# Altium footprint library QQ2440V3封装库.PcbLib: 50 footprints (part 1 of 4)
Each footprint in its own frame and in the unit in brackets; x right, y up, seen from the top. Pads: shape width x height; smd on the part's side, far side on the other; paste and mask are expansions set on the pad; w line width, h text height; cw(c..) or ccw(c..) is an arc to the next point about the centre after c.
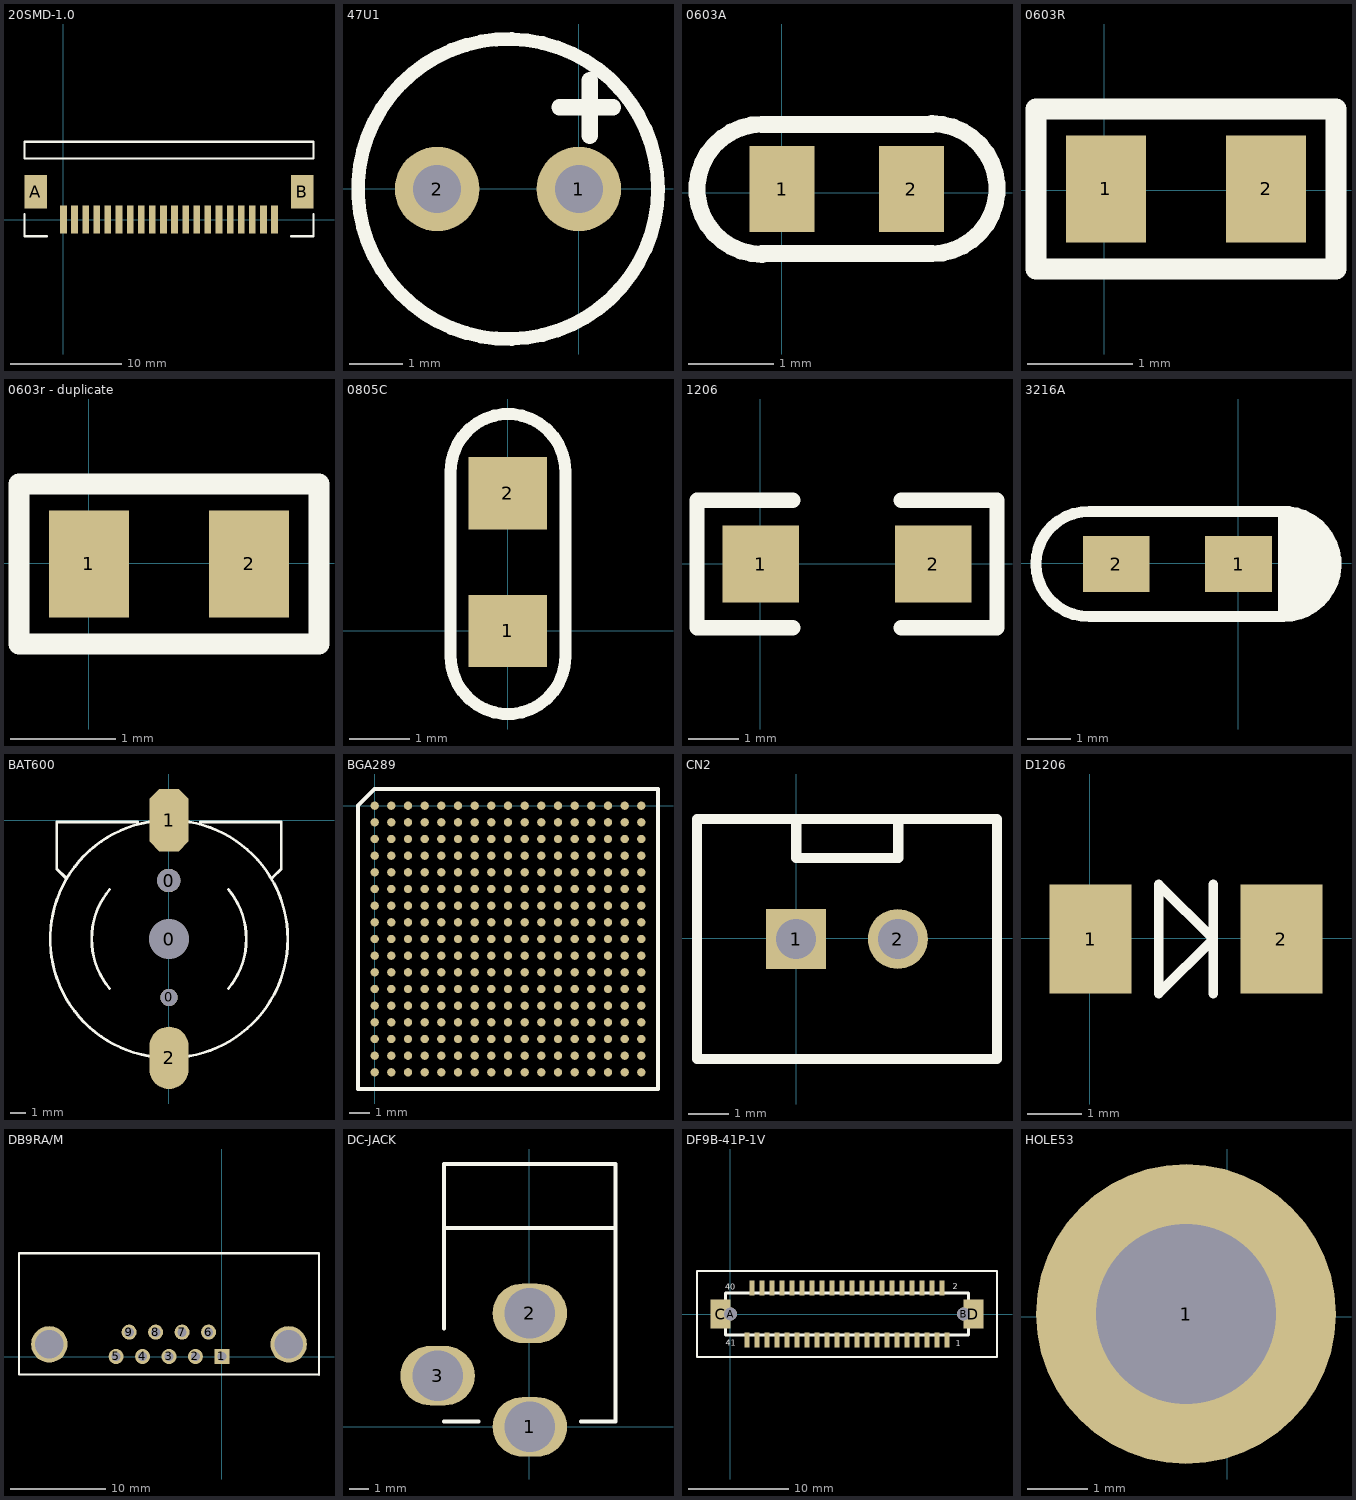
[diagram p0: the footprints below, top view; thin cyan lines are the x and y axes]

## 20SMD-1.0 [mm]
pads (22):
  rect 0.6x2.5 smd: 1(0.022,0.009) 2(1.022,0.009) 3(2.022,0.009) 4(3.022,0.009) 5(4.022,0.009) 6(5.022,0.009) 7(6.022,0.009) 8(7.022,0.009) 9(8.022,0.009) 10(9.022,0.009) 11(10.022,0.009) 12(11.022,0.009) 13(12.022,0.009) 14(13.022,0.009) 15(14.022,0.009) 16(15.022,0.009) 17(16.022,0.009) 18(17.022,0.009) 19(18.022,0.009) 20(19.022,0.009)
  rect 2x3 smd: A(-2.478,2.509) B(21.522,2.509)
TopOverlay:
  lines w0.2: -3.478,0.509 -3.478,-1.491 -1.478,-1.491 ; 20.522,-1.491 22.522,-1.491 22.522,0.509 ; -3.478,5.509 22.522,5.509 22.522,7.009 -3.478,7.009 -3.478,5.509

## 47U1 [mil]
pads (2):
  round 62 hole 35.43: 1(0.15,-0.25) 2(-104.1,-0.25)
TopOverlay:
  circle w10: c-51.98,-0.25 r110.24
  lines w12: -14.18,59.75 25.19,59.75 ; 8.02,38.8 8.02,79.75

## 0603A [mil]
pads (2):
  rect 30x40 smd: 1(0.15,1.65) 2(60.15,1.65)
TopOverlay:
  lines w7.87: -9.1,-28.63 cw(c-9.1,1.51) -9.1,31.65 69.64,31.65 ; -9.1,-28.35 69.64,-28.35 ccw(c69.64,1.8) 69.64,31.94

## 0603R [mil]
pads (2):
  rect 30x40 smd: 1(0.66,0.41) 2(60.66,0.41)
TopOverlay:
  lines w7.87: 86.8,-29.63 86.8,30.41 -25.48,30.41 -25.48,-29.59 86.8,-29.59

## 0603r - duplicate [mil]
pads (2):
  rect 30x40 smd: 1(0.07,-0.25) 2(60.07,-0.25)
TopOverlay:
  lines w7.87: 86.21,-30.29 86.21,29.75 -26.07,29.75 -26.07,-30.25 86.21,-30.25

## 0805C [mm]
pads (2):
  rect 1.3x1.2 smd: 1(0.004,-0.004) 2(0.004,2.282)
TopOverlay:
  lines w0.2: -0.943,-0.432 ccw(c0.007,-0.432) 0.957,-0.432 0.957,2.643 ccw(c0.007,2.643) -0.943,2.643 -0.943,-0.432

## 1206 [mil]
pads (2):
  rect 60x60 smd: 1(0.5,-0.17) 2(135.5,-0.17)
TopOverlay:
  lines w12: 25.5,-50.17 -49.5,-50.17 -49.5,49.83 25.5,49.83 ; 110.5,-50.17 185.5,-50.17 185.5,49.83 110.5,49.83

## 3216A [mil]
pads (2):
  rect 60x50 smd: 1(0.12,-0.87) 2(-109.88,-0.87)
TopOverlay:
  rectangle: 45.39,-44.18 62.13,40.47
  rectangle: 57.2,-37.29 70.98,37.51
  rectangle: 66.06,-32.37 81.81,29.64
  rectangle: 69.02,-10.71 85.75,15.86
  rectangle: 42.44,-41.22 66.07,42.44
  lines w10: -133.74,-48.12 40.47,-48.12 ; -133.75,46.37 39.49,46.37 ; -133.7,-48.11 cw(c-134.72,-0.87) -133.7,46.37 ; 38.23,46.32 cw(c40.47,-0.87) 40.47,-48.12 ; 40.47,44.41 40.47,-48.12

## BAT600 [mm]
pads (5):
  round 1.5 hole 1.5: 0(-0.014,-3.866)
  round 1.1 hole 1.1: 0(0.011,-11.366)
  round 2.54 hole 2.54: 0(0.011,-7.616)
  oct 2.5x4 smd: 1(0.011,0.004)
  oval 2.5x4 smd: 2(0.011,-15.236)
TopOverlay:
  lines w0.178: -6.614,-3.691 -7.189,-3.116 -7.189,-0.116 -1.989,-0.116 ; -3.802,-10.788 cw(c0.011,-7.616) -3.799,-4.441 ; -0.823,-15.19 cw(c0.011,-7.616) -0.823,-0.042 ; 0.844,-15.19 ccw(c0.011,-7.616) 7.631,-7.616 ccw(c0.011,-7.616) 0.844,-0.042 ; 2.011,-0.116 7.211,-0.116 7.211,-3.116 6.611,-3.716 ; 3.823,-10.788 ccw(c0.011,-7.616) 3.825,-4.447

## BGA289 [mm]
pads (289):
  round 0.4 smd: A1(-0.012,-0.008) A2(0.788,-0.008) A3(1.588,-0.008) A4(2.388,-0.008) A5(3.188,-0.008) A6(3.988,-0.008) A7(4.788,-0.008) A8(5.588,-0.008) A9(6.388,-0.008) A10(7.188,-0.008) A11(7.988,-0.008) A12(8.788,-0.008) A13(9.588,-0.008) A14(10.388,-0.008) A15(11.188,-0.008) A16(11.988,-0.008) A17(12.788,-0.008) B1(-0.012,-0.808) B2(0.788,-0.808) B3(1.588,-0.808) B4(2.388,-0.808) B5(3.188,-0.808) B6(3.988,-0.808) B7(4.788,-0.808) B8(5.588,-0.808) B9(6.388,-0.808) B10(7.188,-0.808) B11(7.988,-0.808) B12(8.788,-0.808) B13(9.588,-0.808) B14(10.388,-0.808) B15(11.188,-0.808) B16(11.988,-0.808) B17(12.788,-0.808) C1(-0.012,-1.608) C2(0.788,-1.608) C3(1.588,-1.608) C4(2.388,-1.608) C5(3.188,-1.608) C6(3.988,-1.608) C7(4.788,-1.608) C8(5.588,-1.608) C9(6.388,-1.608) C10(7.188,-1.608) C11(7.988,-1.608) C12(8.788,-1.608) C13(9.588,-1.608) C14(10.388,-1.608) C15(11.188,-1.608) C16(11.988,-1.608) C17(12.788,-1.608) D1(-0.012,-2.408) D2(0.788,-2.408) D3(1.588,-2.408) D4(2.388,-2.408) D5(3.188,-2.408) D6(3.988,-2.408) D7(4.788,-2.408) D8(5.588,-2.408) D9(6.388,-2.408) D10(7.188,-2.408) D11(7.988,-2.408) D12(8.788,-2.408) D13(9.588,-2.408) D14(10.388,-2.408) D15(11.188,-2.408) D16(11.988,-2.408) D17(12.788,-2.408) E1(-0.012,-3.208) E2(0.788,-3.208) E3(1.588,-3.208) E4(2.388,-3.208) E5(3.188,-3.208) E6(3.988,-3.208) E7(4.788,-3.208) E8(5.588,-3.208) E9(6.388,-3.208) E10(7.188,-3.208) E11(7.988,-3.208) E12(8.788,-3.208) E13(9.588,-3.208) E14(10.388,-3.208) E15(11.188,-3.208) E16(11.988,-3.208) E17(12.788,-3.208) F1(-0.012,-4.008) F2(0.788,-4.008) F3(1.588,-4.008) F4(2.388,-4.008) F5(3.188,-4.008) F6(3.988,-4.008) F7(4.788,-4.008) F8(5.588,-4.008) F9(6.388,-4.008) F10(7.188,-4.008) F11(7.988,-4.008) F12(8.788,-4.008) F13(9.588,-4.008) F14(10.388,-4.008) F15(11.188,-4.008) F16(11.988,-4.008) F17(12.788,-4.008) G1(-0.012,-4.808) G2(0.788,-4.808) G3(1.588,-4.808) G4(2.388,-4.808) G5(3.188,-4.808) G6(3.988,-4.808) G7(4.788,-4.808) G8(5.588,-4.808) G9(6.388,-4.808) G10(7.188,-4.808) G11(7.988,-4.808) G12(8.788,-4.808) G13(9.588,-4.808) G14(10.388,-4.808) G15(11.188,-4.808) G16(11.988,-4.808) G17(12.788,-4.808) H1(-0.012,-5.608) H2(0.788,-5.608) H3(1.588,-5.608) H4(2.388,-5.608) H5(3.188,-5.608) H6(3.988,-5.608) H7(4.788,-5.608) H8(5.588,-5.608) H9(6.388,-5.608) H10(7.188,-5.608) H11(7.988,-5.608) H12(8.788,-5.608) H13(9.588,-5.608) H14(10.388,-5.608) H15(11.188,-5.608) H16(11.988,-5.608) H17(12.788,-5.608) J1(-0.012,-6.408) J2(0.788,-6.408) J3(1.588,-6.408) J4(2.388,-6.408) J5(3.188,-6.408) J6(3.988,-6.408) J7(4.788,-6.408) J8(5.588,-6.408) J9(6.388,-6.408) J10(7.188,-6.408) J11(7.988,-6.408) J12(8.788,-6.408) J13(9.588,-6.408) J14(10.388,-6.408) J15(11.188,-6.408) J16(11.988,-6.408) J17(12.788,-6.408) K1(-0.012,-7.208) K2(0.788,-7.208) K3(1.588,-7.208) K4(2.388,-7.208) K5(3.188,-7.208) K6(3.988,-7.208) K7(4.788,-7.208) K8(5.588,-7.208) K9(6.388,-7.208) K10(7.188,-7.208) K11(7.988,-7.208) K12(8.788,-7.208) K13(9.588,-7.208) K14(10.388,-7.208) K15(11.188,-7.208) K16(11.988,-7.208) K17(12.788,-7.208) L1(-0.012,-8.008) L2(0.788,-8.008) L3(1.588,-8.008) L4(2.388,-8.008) L5(3.188,-8.008) L6(3.988,-8.008) L7(4.788,-8.008) L8(5.588,-8.008) L9(6.388,-8.008) L10(7.188,-8.008) L11(7.988,-8.008) L12(8.788,-8.008) L13(9.588,-8.008) L14(10.388,-8.008) L15(11.188,-8.008) L16(11.988,-8.008) L17(12.788,-8.008) M1(-0.012,-8.808) M2(0.788,-8.808) M3(1.588,-8.808) M4(2.388,-8.808) M5(3.188,-8.808) M6(3.988,-8.808) M7(4.788,-8.808) M8(5.588,-8.808) M9(6.388,-8.808) M10(7.188,-8.808) M11(7.988,-8.808) M12(8.788,-8.808) M13(9.588,-8.808) M14(10.388,-8.808) M15(11.188,-8.808) M16(11.988,-8.808) M17(12.788,-8.808) N1(-0.012,-9.608) N2(0.788,-9.608) N3(1.588,-9.608) N4(2.388,-9.608) N5(3.188,-9.608) N6(3.988,-9.608) N7(4.788,-9.608) N8(5.588,-9.608) N9(6.388,-9.608) N10(7.188,-9.608) N11(7.988,-9.608) N12(8.788,-9.608) N13(9.588,-9.608) N14(10.388,-9.608) N15(11.188,-9.608) N16(11.988,-9.608) N17(12.788,-9.608) P1(-0.012,-10.408) P2(0.788,-10.408) P3(1.588,-10.408) P4(2.388,-10.408) P5(3.188,-10.408) P6(3.988,-10.408) P7(4.788,-10.408) P8(5.588,-10.408) P9(6.388,-10.408) P10(7.188,-10.408) P11(7.988,-10.408) P12(8.788,-10.408) P13(9.588,-10.408) P14(10.388,-10.408) P15(11.188,-10.408) P16(11.988,-10.408) P17(12.788,-10.408) R1(-0.012,-11.208) R2(0.788,-11.208) R3(1.588,-11.208) R4(2.388,-11.208) R5(3.188,-11.208) R6(3.988,-11.208) R7(4.788,-11.208) R8(5.588,-11.208) R9(6.388,-11.208) R10(7.188,-11.208) R11(7.988,-11.208) R12(8.788,-11.208) R13(9.588,-11.208) R14(10.388,-11.208) R15(11.188,-11.208) R16(11.988,-11.208) R17(12.788,-11.208) T1(-0.012,-12.008) T2(0.788,-12.008) T3(1.588,-12.008) T4(2.388,-12.008) T5(3.188,-12.008) T6(3.988,-12.008) T7(4.788,-12.008) T8(5.588,-12.008) T9(6.388,-12.008) T10(7.188,-12.008) T11(7.988,-12.008) T12(8.788,-12.008) T13(9.588,-12.008) T14(10.388,-12.008) T15(11.188,-12.008) T16(11.988,-12.008) T17(12.788,-12.008) U1(-0.012,-12.808) U2(0.788,-12.808) U3(1.588,-12.808) U4(2.388,-12.808) U5(3.188,-12.808) U6(3.988,-12.808) U7(4.788,-12.808) U8(5.588,-12.808) U9(6.388,-12.808) U10(7.188,-12.808) U11(7.988,-12.808) U12(8.788,-12.808) U13(9.588,-12.808) U14(10.388,-12.808) U15(11.188,-12.808) U16(11.988,-12.808) U17(12.788,-12.808)
TopOverlay:
  lines w0.2: -0.812,-13.608 13.588,-13.608 13.588,0.792 -0.012,0.792 -0.812,-0.008 -0.812,-13.608

## CN2 [mm]
pads (2):
  rect 1.5x1.5 hole 1: 1(-0.001,-0.018)
  round 1.5 hole 1: 2(2.539,-0.018)
TopOverlay:
  lines w0.254: -0.001,2.882 -0.001,2.007 2.549,2.007 2.549,2.982 ; -2.481,-3.018 5.019,-3.018 5.019,2.982 -2.481,2.982 -2.481,-3.018

## D1206 [mm]
pads (2):
  rect 1.5x2 smd: 1(0.015,-0.01) 2(3.515,-0.01)
TopOverlay:
  lines w0.025: 1.265,0.99 1.265,0.99 ; 2.265,-0.01 2.265,-0.01
  lines w0.178: 2.265,-1.01 2.265,0.99 ; 1.265,-1.01 2.265,-0.01 1.265,0.99 1.265,-1.01

## DB9RA/M [mil]
pads (11):
  rect 62x62 hole 38: 1(-0.25,0.14)
  round 62 hole 38: 2(-109.25,0.14) 3(-218.25,0.14) 4(-327.25,0.14) 5(-436.25,0.14) 6(-55.25,100.14) 7(-164.25,100.14) 8(-273.25,100.14) 9(-382.25,100.14)
  round 150 hole 118.11: ""(-711.25,50.14) ""(274.75,50.14)
TopOverlay:
  lines w8: -836.25,425.14 -836.25,-74.86 399.75,-74.86
  lines w10: -836.25,425.14 399.75,425.14 399.75,-74.86

## DC-JACK [mil]
pads (3):
  oval 150x120 hole 102: 1(1.07,0.21) 2(1.07,229.21) 3(-184.93,103.21)
TopOverlay:
  lines w8: -171.93,11.21 -101.93,11.21 ; -171.93,198.21 -171.93,530.21 174.07,530.21 174.07,11.21 104.07,11.21 ; -171.93,401.21 174.07,401.21

## DF9B-41P-1V [mm]
pads (45):
  rect 0.5x1.5 smd: 1(21.657,-2.599) 2(21.157,2.601) 3(20.657,-2.599) 4(20.157,2.601) 5(19.657,-2.599) 6(19.157,2.601) 7(18.657,-2.599) 8(18.157,2.601) 9(17.657,-2.599) 10(17.157,2.601) 11(16.657,-2.599) 12(16.157,2.601) 13(15.657,-2.599) 14(15.157,2.601) 15(14.657,-2.599) 16(14.157,2.601) 17(13.657,-2.599) 18(13.157,2.601) 19(12.657,-2.599) 20(12.157,2.601) 21(11.657,-2.599) 22(11.157,2.601) 23(10.657,-2.599) 24(10.157,2.601) 25(9.657,-2.599) 26(9.157,2.601) 27(8.657,-2.599) 28(8.157,2.601) 29(7.657,-2.599) 30(7.157,2.601) 31(6.657,-2.599) 32(6.157,2.601) 33(5.657,-2.599) 34(5.157,2.601) 35(4.657,-2.599) 36(4.157,2.601) 37(3.657,-2.599) 38(3.157,2.601) 39(2.657,-2.599) 40(2.157,2.601) 41(1.657,-2.599)
  round 1.3 hole 1.3: A(0.007,0.001) B(23.307,0.001)
  rect 2x2.9 smd: C(-0.993,0.001) D(24.307,0.001)
TopOverlay:
  lines w0.2: -3.343,-4.299 -3.343,4.301 ; -3.343,-4.296 26.657,-4.296 ; -3.343,4.304 26.657,4.304 ; 26.657,-4.299 26.657,4.301
  lines w0.254: -0.493,-2.099 -0.493,2.101 23.807,2.101 23.807,-2.099 -0.493,-2.099
  text "1" at 22.507,-3.224 h0.6
  text "2" at 22.257,2.476 h0.6
  text "41" at -0.493,-3.149 h0.6
  text "40" at -0.518,2.426 h0.6

## HOLE53 [mm]
pads (1):
  round 5 hole 3: 1(-0.687,0.047)